# EAGLE library part 2NBS08-7 (library EW_Resistors)
BOURNS RESISTOR NETWORK
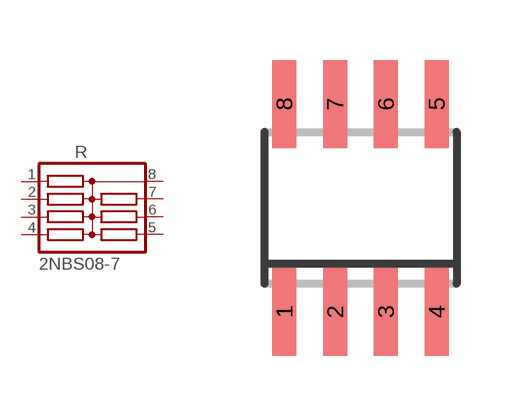
[diagram p35: symbol with the pads of SO8; footprint SO8]

Designator prefix R

## 2NBS08-7 (OC_FARNELL: unknown; OC_NEWARK: unknown)  [SO8]
1  1  pas
2  2  pas
3  3  pas
4  4  pas
5  5  pas
6  6  pas
7  7  pas
8  8  pas

## Footprint SO8 (pad centres in mm)
BOURNS RESISTOR NETWORK
smd 0.6 x 2.2: 1 -1.905,-2.6; 2 -0.635,-2.6; 3 0.635,-2.6; 4 1.905,-2.6; 5 1.905,2.6; 6 0.635,2.6; 7 -0.635,2.6; 8 -1.905,2.6